# Altium schematic symbol library C-06033C473JAT2A.Schlib: 1 symbol
Pins are listed as number, name and electrical type; pins without a type are passive.

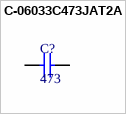
[diagram p0: symbol C-06033C473JAT2A]

## C-06033C473JAT2A
designator C?, comment 473
Multilayer Ceramic Capacitors MLCC - SMD/SMT 25volts 0.047uF 5% X7R
pins: 1, 2